# EAGLE library part DS3232MZ+ (library greg)
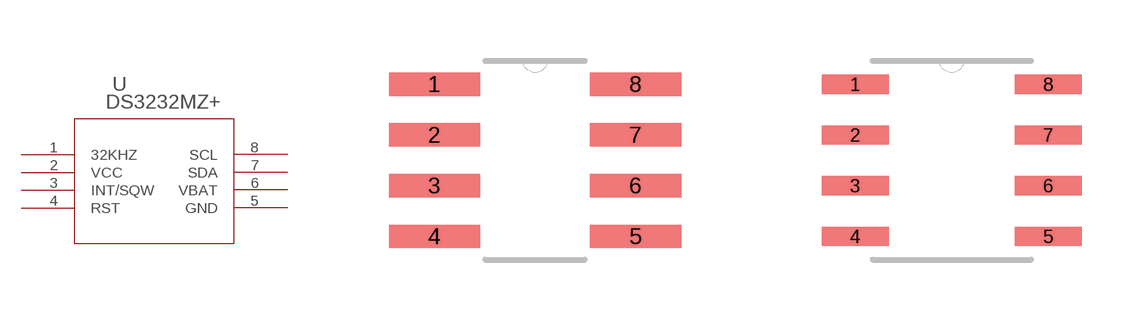
[diagram p18: symbol with the pads of 21_0041B_8_M; footprints 21_0041B_8_M, 21_0041B_8_L]

Designator prefix -

## DS3232MZ+M  [21_0041B_8_M]
1  32KHZ  pas
2  VCC  pwr
3  INT/SQW  pas
4  RST  pas
5  GND  pwr
6  VBAT  pwr
7  SDA  pas
8  SCL  pas

## DS3232MZ+LP  [21_0041B_8_L]
Pads as for 21_0041B_8_M

## DS3232MZ+  [21_0041B_8]
Pads as for 21_0041B_8_M

## Footprint 21_0041B_8_M (pad centres in mm)
smd 2.286 x 0.584: 1 -2.515,1.905; 2 -2.515,0.635; 3 -2.515,-0.635; 4 -2.515,-1.905; 5 2.515,-1.905; 6 2.515,-0.635; 7 2.515,0.635; 8 2.515,1.905

## Footprint 21_0041B_8_L (pad centres in mm)
smd 1.676 x 0.483: 1 -2.413,1.905; 2 -2.413,0.635; 3 -2.413,-0.635; 4 -2.413,-1.905; 5 2.413,-1.905; 6 2.413,-0.635; 7 2.413,0.635; 8 2.413,1.905

## Footprint 21_0041B_8 (pad centres in mm)
smd 1.981 x 0.533: 1 -2.464,1.905; 2 -2.464,0.635; 3 -2.464,-0.635; 4 -2.464,-1.905; 5 2.464,-1.905; 6 2.464,-0.635; 7 2.464,0.635; 8 2.464,1.905